# Altium footprint library Diode-Bridge.PcbLib: 57 footprints (part 3 of 4)
Each footprint in its own frame and in the unit in brackets; x right, y up, seen from the top. Pads: shape width x height; smd on the part's side, far side on the other; paste and mask are expansions set on the pad; w line width, h text height; cw(c..) or ccw(c..) is an arc to the next point about the centre after c.
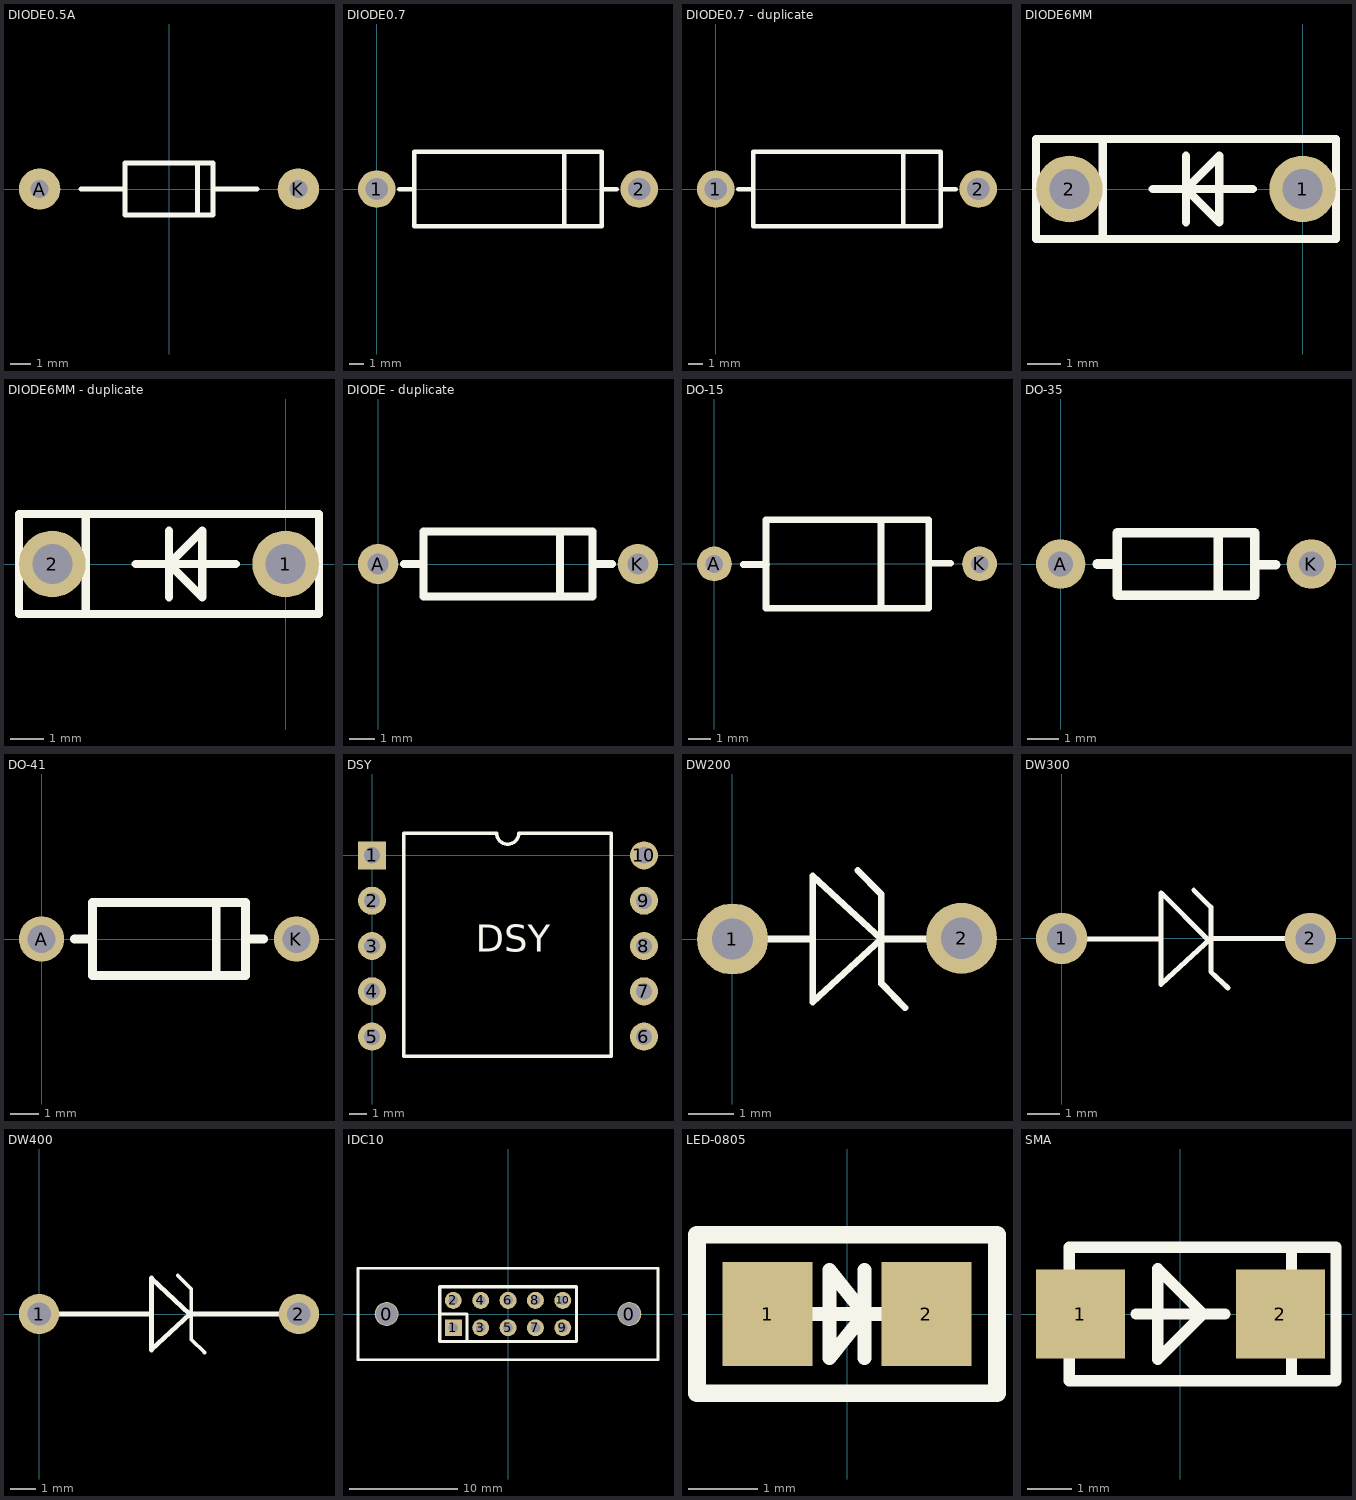
[diagram p2: the footprints below, top view; thin cyan lines are the x and y axes]

## DIODE0.5A [mil]
pads (2):
  round 80 hole 35: A(-250,0) K(250,0)
Top Overlay:
  lines w10: -170,0 -85,0 ; 55,-50 55,50 ; 85,0 170,0 ; -85,0 -85,-50 85,-50 85,50 -85,50 -85,0

## DIODE0.7 [mm]
pads (2):
  round 2.54 hole 1.5: 1(0,0) 2(17.78,0)
Top Overlay:
  lines w0.305: 1.524,0 2.54,0 ; 12.7,-2.54 12.7,2.54 ; 15.24,0 16.256,0 ; 2.54,-2.54 2.54,2.54 15.24,2.54 15.24,-2.54 2.54,-2.54

## DIODE0.7 - duplicate [mm]
pads (2):
  round 2.54 hole 1.5: 1(0,0) 2(17.78,0)
Top Overlay:
  lines w0.305: 1.524,0 2.54,0 ; 12.7,-2.54 12.7,2.54 ; 15.24,0 16.256,0 ; 2.54,-2.54 2.54,2.54 15.24,2.54 15.24,-2.54 2.54,-2.54

## DIODE6MM [mm]
pads (2):
  round 2 hole 1.2: 1(0,0) 2(-7,0)
Top Overlay:
  lines w0.254: -6,-1.5 -6,1.5 ; -4.5,0 -1.5,0 ; -3.5,-1 -3.5,1 ; -8,-1.5 -8,1.5 1,1.5 1,-1.5 -8,-1.5 ; -3.5,0 -2.5,-1 -2.5,1 -3.5,0

## DIODE6MM - duplicate [mm]
pads (2):
  round 2 hole 1.2: 1(0,0) 2(-7,0)
Top Overlay:
  lines w0.254: -6,-1.5 -6,1.5 ; -4.5,0 -1.5,0 ; -3.5,-1 -3.5,1 ; -8,-1.5 -8,1.5 1,1.5 1,-1.5 -8,-1.5 ; -3.5,0 -2.5,-1 -2.5,1 -3.5,0

## DIODE - duplicate [mil]
pads (2):
  round 62 hole 32: A(0,0) K(400,0)
Top Overlay:
  lines w12: 40,0 70,0 ; 280,-50 280,50 ; 330,0 360,0 ; 70,-50 70,50 330,50 330,-50 70,-50

## DO-15 [mil]
pads (2):
  round 62 hole 31.5: A(0,0) K(472.44,0)
Top Overlay:
  lines w12: 51.18,-1 93,-1 ; 92,-78.74 381.89,-78.74 ; 92,-78 92,78.48 ; 92,78.74 381.89,78.74 ; 297,-78.74 297,78.74 ; 382,-79 382,78.48 ; 388,1 421.26,1

## DO-35 [mil]
pads (2):
  round 62 hole 31.5: A(0,0) K(314.96,0)
Top Overlay:
  lines w12: 46,0 71,0 ; 198,-39.37 198,39.37 ; 245,-1 270,-1 ; 71,-39.37 244,-39.37 244,39.37 71,39.37 71,-39.37

## DO-41 [mil]
pads (2):
  round 62 hole 38: A(0,0) K(350,0)
Top Overlay:
  lines w12: 45,0 70,0 ; 240,-50 240,50 ; 280,0 305,0 ; 70,-50 280,-50 280,50 70,50 70,-50

## DSY [mil]
pads (10):
  rect 62x62 hole 36: 1(0,0)
  round 62 hole 36: 2(0,-100) 3(0,-200) 4(0,-300) 5(0,-400) 6(600,-400) 7(600,-300) 8(600,-200) 9(600,-100) 10(600,0)
Top Overlay:
  lines w7.87: 70.28,-442.91 528.15,-442.91 528.15,49.21 323.82,49.21 cw(c299.21,49.21) 274.61,49.21 70.28,49.21 70.28,-442.91
  text "DSY" at 228.35,-212.6 h60

## DW200 [mil]
pads (2):
  round 62 hole 36: 1(0,0) 2(200,0.63)
Top Overlay:
  lines w5.91: 0,0 70,0 ; 70,-55.12 70,0.63 ; 109.33,60 130,39 130,-39 150.67,-60 ; 200,0 130,0 ; 130,0 70,-55 70,55 130,0

## DW300 [mil]
pads (2):
  round 62 hole 36: 1(0,0) 2(300,0)
Top Overlay:
  lines w1.97: 175,0 180,0
  lines w5.91: 0,-0.63 120,-0.63 ; 120,-55.75 120,0 ; 159.33,58.42 180,37.76 180,-40 200.67,-59.69 ; 175,0 120,55 120,-55 180,0 300,0

## DW400 [mil]
pads (2):
  round 62 hole 36: 1(0,0) 2(400,0)
Top Overlay:
  lines w5.91: 213.58,59.05 234.25,38.39 234.25,-39.37 254.92,-59.05
  lines w7.87: 0,0 170.03,0 ; 231.84,0 400,0 ; 172.79,-55.12 231.84,-0.44 172.79,55.12 172.79,-55.12

## IDC10 [mm]
pads (12):
  round 2.2 hole 2: 0(-11.27,0) 0(11.27,0)
  rect 1.575x1.575 hole 0.9: 1(-5.075,-1.275)
  round 1.575 hole 0.9: 2(-5.075,1.265) 3(-2.535,-1.275) 4(-2.535,1.265) 5(0.005,-1.275) 6(0.005,1.265) 7(2.545,-1.275) 8(2.545,1.265) 9(5.085,-1.275) 10(5.085,1.265)
Top Overlay:
  lines w0.254: -13.92,-4.25 -13.92,4.25 13.92,4.25 13.92,-4.25 -13.92,-4.25
  lines w0.305: -6.345,-0.005 -3.805,-0.005 -3.805,-2.545 ; -6.345,-2.545 6.355,-2.545 6.355,2.535 -6.345,2.535 -6.345,-2.545

## LED-0805 [mm]
pads (2):
  rect 1.3x1.5 smd: 1(-1.143,0) 2(1.143,0)
Top Overlay:
  lines w0.203: -0.508,0 0.508,0 ; 0.254,-0.635 0.254,0.635 ; -0.254,-0.635 0.254,0 -0.254,0.635 -0.254,-0.635
  lines w0.254: -2.159,-1.143 2.159,-1.143 2.159,1.143 -2.159,1.143 -2.159,-1.143
3D body "User Library-LED SMD0805.STEP": height 0.85, standoff 0.01, extent -1.042,-0.453 1.021,0.453

## SMA [mm]
height 2
pads (2):
  rect 2x2 smd: 1(-2.25,0) 2(2.25,0)
Top Overlay:
  lines w0.254: -2.5,-1 -2.5,-1.5 2.5,-1.5 ; -2.5,1 -2.5,1.5 2.5,1.5 ; -1,0 1,0 ; 2.5,-1 2.5,-1.5 ; 2.5,1 2.5,1.5 ; 2.5,-1.5 3.5,-1.5 3.5,1.5 2.5,1.5 ; -0.508,-1.016 0.508,0 -0.508,1.016 -0.508,-1.016
3D body "User Library-DO-214AC_SMA.STEP": height 2.15, standoff -0.05, extent -2.5,-1.35 2.5,1.35